# Altium footprint library BARR_0.5IN_3x1_0.PcbLib: 1 footprints
Each footprint in its own frame and in the unit in brackets; x right, y up, seen from the top. Pads: shape width x height; smd on the part's side, far side on the other; paste and mask are expansions set on the pad; w line width, h text height; cw(c..) or ccw(c..) is an arc to the next point about the centre after c.
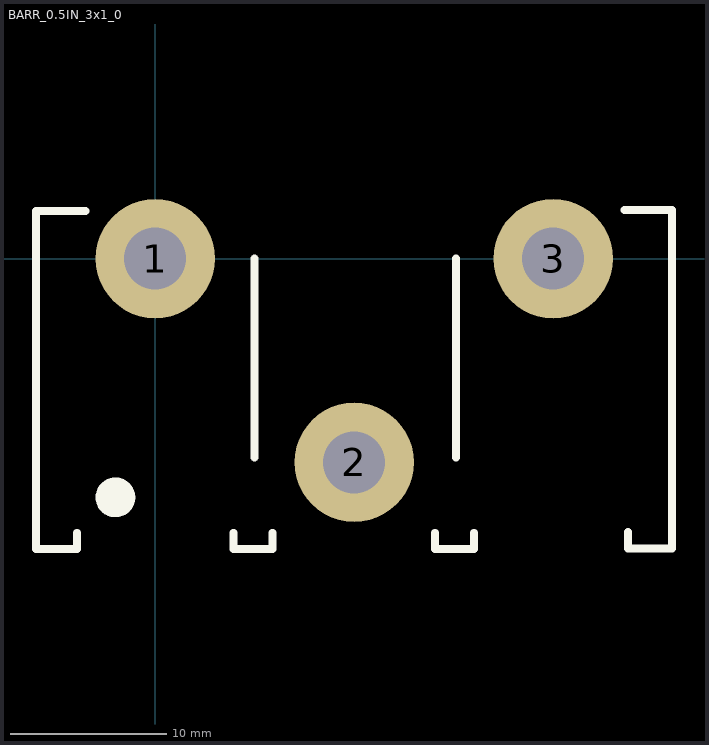
[diagram p0: the footprint, top view; thin cyan lines are the x and y axes]

## BARR_0.5IN_3x1_0 [mm] "Molex 0389690003 connector"
pads (3):
  round 7.62 hole 3.96: 1(0,0) 2(12.7,-13.005) 3(25.4,0)
Top Overlay:
  circle w1.27: c-2.54,-15.24 r0.635
  lines w0.508: -5,-17.5 -5,-18.542 -7.62,-18.542 -7.62,0 -7.62,3.048 -4.445,3.048 ; 5,-17.5 5,-18.542 7.5,-18.542 7.5,-17.5 ; 6.35,-12.7 6.35,0 ; 17.85,-17.5 17.85,-18.542 20.35,-18.542 20.35,-17.5 ; 19.2,-12.7 19.2,0 ; 29.952,3.09 33,3.09 33,0.042 33,-18.5 30.18,-18.5 30.18,-17.458
3D body "389690003.stp": height 22.61, standoff -4.06, extent -7.62,-18.542 33.02,3.048